# EAGLE library part 900_MHZ_BALUN (library SpecialIC)
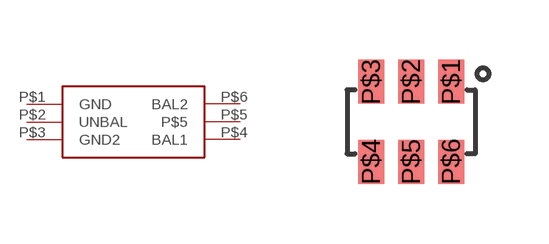
[diagram p8: symbol with the pads of 900_MHZ_BALUN; footprint 900_MHZ_BALUN]

Designator prefix -

## 900_MHZ_BALUN (PLACE_PART: YES)  [900_MHZ_BALUN]
P$1  GND
P$2  UNBAL
P$3  GND2
P$4  BAL1
P$5  P$5
P$6  BAL2

## Footprint 900_MHZ_BALUN (pad centres in mm)
smd 0.65 x 1.1: P$1 1,1; P$2 0,1; P$3 -1,1; P$4 -1,-1; P$5 0,-1; P$6 1,-1